# Altium schematic symbol library Condensateur.SchLib: 3 symbols
Pins are listed as number, name and electrical type; pins without a type are passive.

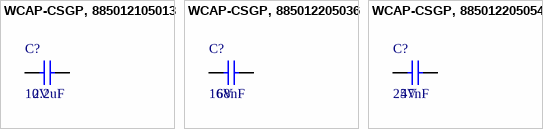
[diagram p0: symbols WCAP-CSGP, 885012105013 to WCAP-CSGP, 885012205054]

## WCAP-CSGP, 885012105013
designator C?, comment 2.2uF  RatedVoltage: 10V
CAP CER 2.2UF 10V X5R 0402; Manufacturer: Wurth Elektronik; Manufacturer Part Number: 885012105013; ComponentLink1Description: Datasheet; ComponentLink1URL: http://katalog.we-online.com/pbs/datasheet/885012105013.pdf; Value: 2.2uF; Size: 0402; CeramicType: X5R
footprint WCAP-CSGP_0402, 1x0.5x0.5
pins: 1, 2

## WCAP-CSGP, 885012205036
designator C?, comment 68nF  RatedVoltage: 16V
CAP CER 68nF 16V X7R 0402; Manufacturer: Wurth Elektronik; Manufacturer Part Number: 885012205036; ComponentLink1Description: Datasheet; ComponentLink1URL: http://katalog.we-online.com/pbs/datasheet/885012205036.pdf; Value: 68nF; Size: 0402; CeramicType: X7R
footprint WCAP-CSGP_0402, 1x0.5x0.5
pins: 1, 2

## WCAP-CSGP, 885012205054
designator C?, comment 47nF  RatedVoltage: 25V
CAP CER 47nF 25V X7R 0402; Manufacturer: Wurth Elektronik; Manufacturer Part Number: 885012205054; ComponentLink1Description: Datasheet; ComponentLink1URL: http://katalog.we-online.com/pbs/datasheet/885012205054.pdf; Value: 47nF; Size: 0402; CeramicType: X7R
footprint WCAP-CSGP_0402, 1x0.5x0.5
pins: 1, 2